# EAGLE library part MAX323 (library 0_jc-custom-eagle6)
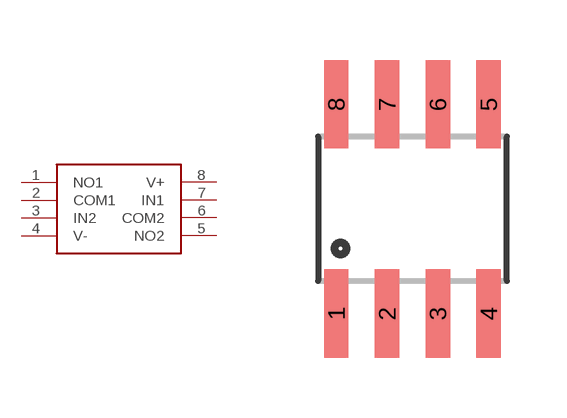
[diagram p19: symbol with the pads of SO08; footprint SO08]

Designator prefix U

## MAX323  [SO08]
1  NO1
2  COM1
3  IN2
4  V-
5  NO2
6  COM2
7  IN1
8  V+

## Footprint SO08 (pad centres in mm)
Small Outline Package Fits JEDEC packages (narrow SOIC-8)
smd 0.61 x 2.21: 1 -1.905,-2.616; 2 -0.635,-2.616; 3 0.635,-2.616; 4 1.905,-2.616; 5 1.905,2.616; 6 0.635,2.616; 7 -0.635,2.616; 8 -1.905,2.616